# Altium footprint library NewLibrary.PcbLib: 126 footprints (part 2 of 8)
Each footprint in its own frame and in the unit in brackets; x right, y up, seen from the top. Pads: shape width x height; smd on the part's side, far side on the other; paste and mask are expansions set on the pad; w line width, h text height; cw(c..) or ccw(c..) is an arc to the next point about the centre after c.
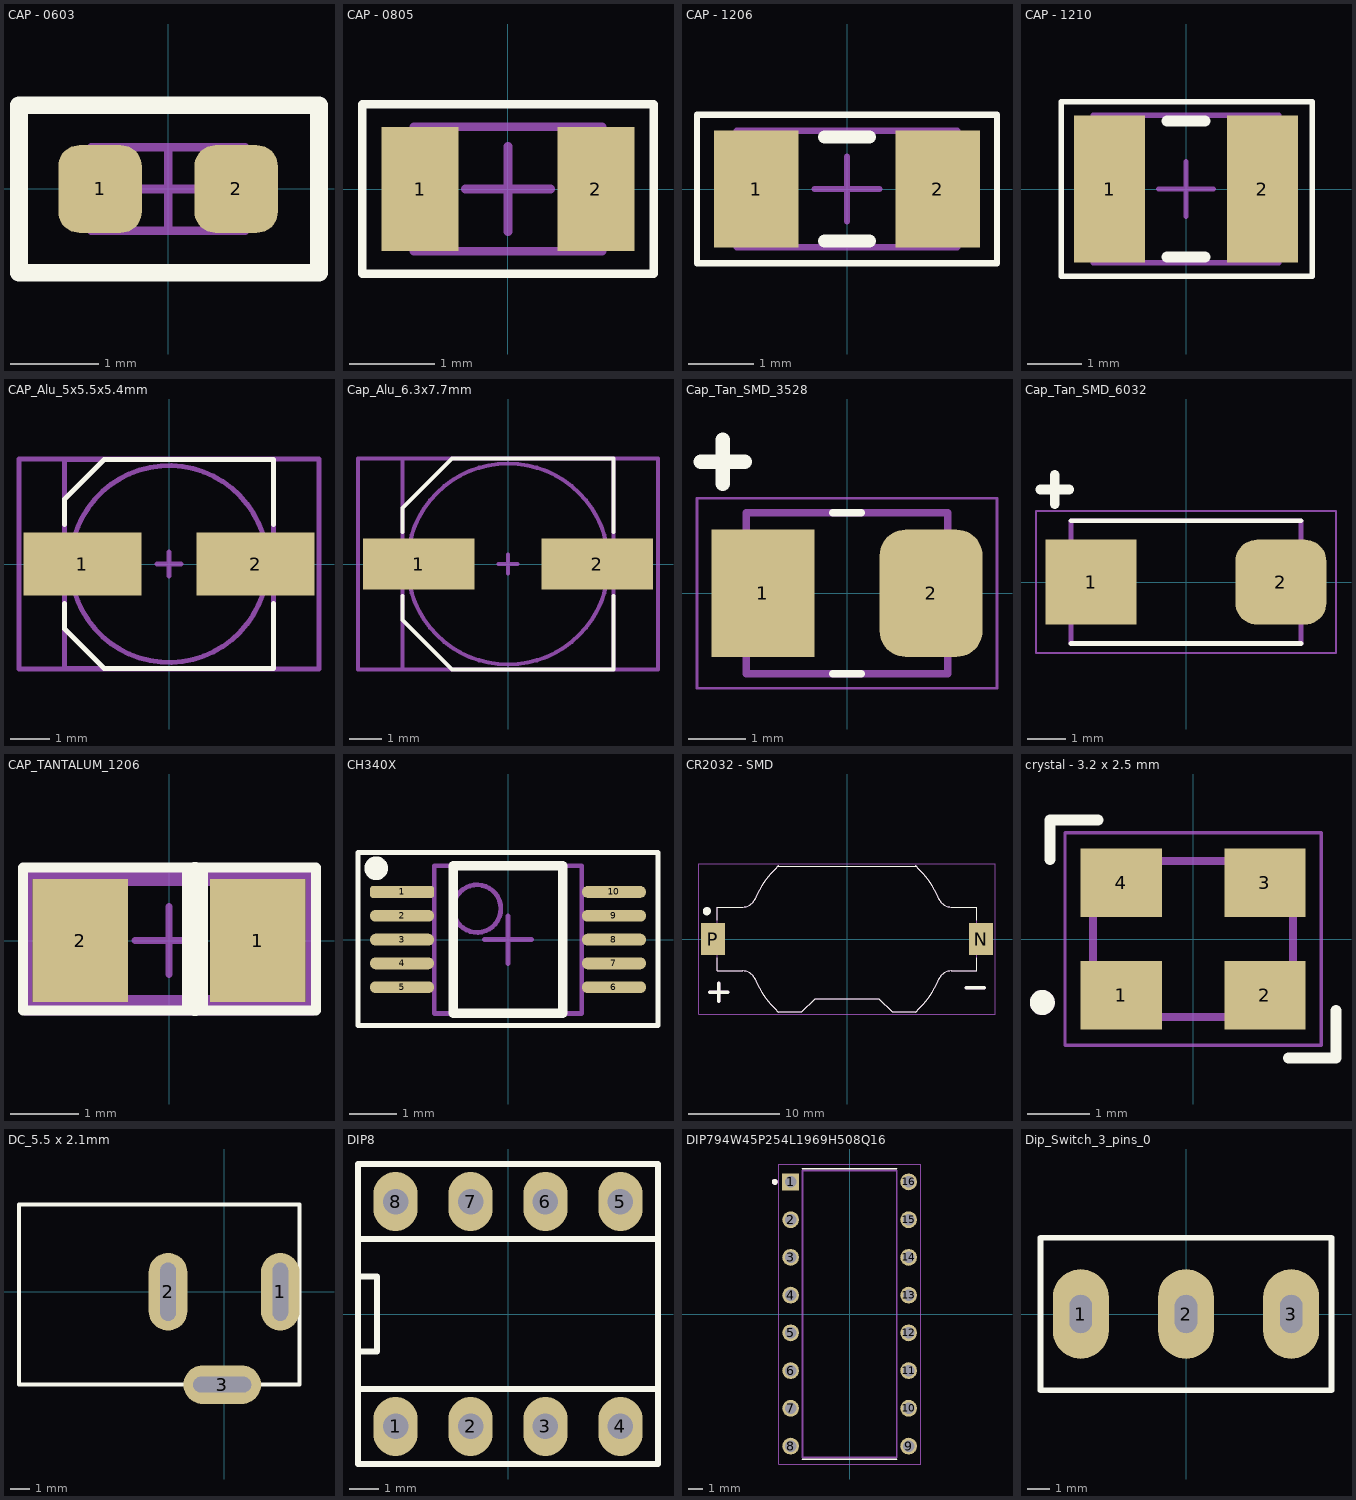
[diagram p1: the footprints below, top view; thin cyan lines are the x and y axes]

## CAP - 0603 [mm] "Capacitor SMD - 1608 - KEMET"
height 1
pads (2):
  rrect50% 0.95x1 smd: 1(-0.775,0) 2(0.775,0)
Top Overlay:
  lines w0.2: -1.699,-0.953 1.718,-0.953 1.718,0.953 -1.699,0.953 -1.699,-0.953
Mechanical 13:
  lines w0.1: -0.875,-0.475 0.875,-0.475 0.875,0.475 -0.875,0.475 -0.875,-0.475
Mechanical 15:
  lines w0.1: -0.475,0 0.475,0 ; 0,-0.475 0,0.475
3D body "CAP - 0603.step": height 1, standoff 0, extent -0.875,-0.475 0.875,0.475

## CAP - 0805 [mm] "Capacitor SMD - 2012 - KEMET"
height 1
pads (2):
  rect 0.9x1.45 smd: 1(-1.025,0) 2(1.025,0)
Top Overlay:
  lines w0.1: -1.702,-0.991 1.702,-0.991 1.702,0.991 -1.702,0.991 -1.702,-0.991
Mechanical 13:
  lines w0.1: -1.1,-0.725 -1.1,0.725 1.1,0.725 1.1,-0.725 -1.1,-0.725
Mechanical 15:
  lines w0.1: -0.5,0 0.5,0 ; 0,-0.5 0,0.5
3D body "CAP - 0805.step": height 1, standoff 0, extent -1.1,-0.725 1.1,0.725

## CAP - 1206 [mm] "Capacitor SMD - 3216 - KEMET"
height 1
pads (2):
  rect 1.3x1.8 smd: 1(-1.4,0) 2(1.4,0)
Top Overlay:
  lines w0.1: -2.311,-1.143 2.311,-1.143 2.311,1.143 -2.286,1.143 -2.311,1.143 -2.311,-1.143
  lines w0.2: -0.35,-0.8 0.35,-0.8 ; -0.35,0.8 0.35,0.8
Mechanical 13:
  lines w0.1: -1.7,-0.9 -1.7,0.9 1.7,0.9 1.7,-0.9 -1.7,-0.9
Mechanical 15:
  lines w0.1: -0.5,0 0.5,0 ; 0,-0.5 0,0.5
3D body "CAP - 1206.step": height 1, standoff 0, extent -1.7,-0.9 1.7,0.9

## CAP - 1210 [mm] "Capacitor SMD - 3225 - KEMET"
height 1.2
pads (2):
  rect 1.3x2.7 smd: 1(-1.4,0) 2(1.4,0)
Top Overlay:
  lines w0.1: -2.286,-1.6 -2.286,1.6 2.311,1.6 2.311,-1.6 -2.286,-1.6
  lines w0.2: -0.35,-1.25 0.35,-1.25 ; -0.35,1.25 0.35,1.25
Mechanical 13:
  lines w0.1: -1.7,-1.35 -1.7,1.35 1.7,1.35 1.7,-1.35 -1.7,-1.35
Mechanical 15:
  lines w0.1: -0.5,0 0.5,0 ; 0,-0.5 0,0.5
3D body "CAP - 1210.step": height 1.2, standoff 0, extent -1.7,-1.35 1.7,1.35

## CAP_Alu_5x5.5x5.4mm [mm]
pads (2):
  rect 3x1.6 smd: 1(-2.2,0) 2(2.2,0)
Top Overlay:
  lines w0.127: -2.65,-1 -2.65,-1.65 -1.65,-2.65 2.65,-2.65 2.65,-1 ; -2.65,1 -2.65,1.65 -1.65,2.65 2.65,2.65 2.65,1
Mechanical 13:
  circle w0.127: c0,0 r2.5
  lines w0.127: -2.65,-2.65 -2.65,2.65 2.65,2.65 2.65,-2.65 -2.65,-2.65
Mechanical 15:
  lines w0.127: -0.3,0 0.3,0 ; 0,-0.3 0,0.3 ; -3.81,-2.667 -3.81,2.667 3.81,2.667 3.81,-2.667 -3.81,-2.667
3D body "5x5.5x1.4.stp": height 5.45, standoff -0.05, extent -3,-2.65 3,2.65

## Cap_Alu_6.3x7.7mm [mm]
pads (2):
  rect 3.5x1.6 smd: 1(-2.8,0) 2(2.8,0)
Top Overlay:
  lines w0.127: -3.3,-1 -3.3,-1.75 -1.75,-3.3 3.3,-3.3 3.3,-1 ; -3.3,1 -3.3,1.75 -1.75,3.3 3.3,3.3 3.3,1
Mechanical 13:
  circle w0.127: c0,0 r3.15
  lines w0.127: -3.3,-3.3 3.3,-3.3 3.3,3.3 -3.3,3.3 -3.3,-3.3
Mechanical 15:
  lines w0.127: -0.3,0 0.3,0 ; 0,-0.3 0,0.3 ; -4.699,-3.302 4.699,-3.302 4.699,3.302 -4.699,3.302 -4.699,-3.302
3D body "6.3x7.7x2.2.stp": height 7.65, standoff -0.05, extent -3.65,-3.3 3.65,3.3

## Cap_Tan_SMD_3528 [mm] "SMD"
pads (2):
  rect 1.79x2.21 smd: 1(-1.46,0)
  rrect50% 1.79x2.21 smd: 2(1.46,0)
Top Overlay:
  lines w0.127: -0.245,-1.4 0.245,-1.4 ; -0.245,1.4 0.245,1.4
  lines w0.254: -2.54,2.286 -1.778,2.286 ; -2.159,1.905 -2.159,2.667
Mechanical 13:
  lines w0.127: -1.75,-1.4 1.75,-1.4 1.75,1.4 -1.75,1.4 -1.75,-1.4
Mechanical 15:
  lines w0.05: -2.605,-1.65 2.605,-1.65 2.605,1.65 -2.605,1.65 -2.605,-1.65
3D body "step_temp.STEP": height 2.1, standoff 0, extent -1.75,-1.4 1.75,1.4

## Cap_Tan_SMD_6032 [mm] "SMD"
pads (2):
  rect 2.37x2.21 smd: 1(-2.475,0)
  rrect50% 2.37x2.21 smd: 2(2.475,0)
Top Overlay:
  lines w0.127: -3,-1.6 3,-1.6 ; -3,1.6 3,1.6
  lines w0.254: -3.802,2.413 -3.04,2.413 ; -3.421,2.032 -3.421,2.794
Mechanical 13:
  lines w0.127: -3,-1.6 -3,1.6 3,1.6 3,-1.6 -3,-1.6
Mechanical 15:
  lines w0.05: -3.91,-1.85 -3.91,1.85 3.91,1.85 3.91,-1.85 -3.91,-1.85
3D body "step_temp.STEP": height 2.8, standoff 0, extent -3,-1.6 3,1.6

## CAP_TANTALUM_1206 [mm]
pads (2):
  rect 1.4x1.8 smd paste+0 mask+0: 1(1.298,0) 2(-1.302,0)
Top Overlay:
  lines w0.15: -2.144,-1.027 -2.144,1.071 2.153,1.071 2.153,-1.027 -2.144,-1.027
  lines w0.381: 0.377,-0.914 0.377,0.959
Top Courtyard:
  lines w0.2: -1.702,-0.9 -1.702,0.9 1.698,0.9 1.698,-0.9 -1.702,-0.9
Dimensions:
  lines w0.2: -2.102,-1 -2.102,1 2.098,1 2.098,-1 -2.102,-1
Top Component Center:
  lines w0.1: -0.502,0 0.498,0 ; -0.002,-0.5 -0.002,0.5
3D body "Cap_AVX_Corporation_TLJA107M010R1400_eec.STEP": height 0.25, standoff 0, extent -2.102,-1 2.098,1

## CH340X [mm] "5.1x3.1mm, Package MSOP10"
height 1.1
pads (10):
  rrect50% 1.35x0.25 smd: 1(-2.225,1)
  oval 1.35x0.25 smd: 2(-2.225,0.5) 3(-2.225,0) 4(-2.225,-0.5) 5(-2.225,-1) 6(2.225,-1) 7(2.225,-0.5) 8(2.225,0) 9(2.225,0.5) 10(2.225,1)
Top Overlay:
  circle w0.25: c-2.769,1.499 r0.125
  lines w0.1: -3.15,-1.803 -3.15,1.829 3.15,1.829 3.15,-1.803 -3.15,-1.803
  lines w0.2: -1.15,-1.55 -1.15,1.55 1.15,1.55 1.15,-1.55 -1.15,-1.55
Mechanical 13:
  circle w0.1: c-0.65,0.65 r0.5
  lines w0.1: -1.55,-1.55 -1.55,1.55 1.55,1.55 1.55,-1.55 -1.55,-1.55
Mechanical 15:
  lines w0.1: -0.5,0 0.5,0 ; 0,-0.5 0,0.5
3D body "CH340X.step": height 1.1, standoff 0, extent -2.45,-1.55 2.45,1.55

## CR2032 - SMD [mm] "SMD"
pads (2):
  rect 2.6x3.5 smd: N(14.7,0) P(-14.7,0)
Top Overlay:
  circle w0.8: c-15.367,3.048 r0.05
  lines w0.127: -14.25,-2.07 -14.25,-3.5 -11.456,-3.5 ; -14.25,2.07 -14.25,3.5 -11.456,3.5 ; -7.547,-8 -4.95,-8 -3.5,-6.55 3.5,-6.55 4.95,-8 7.547,-8 ; -7.547,8 7.547,8 ; 14.25,-2.07 14.25,-3.5 11.456,-3.5 ; 14.25,2.07 14.25,3.5 11.456,3.5 ; -11.456,-3.5 cw(c-11.456,-5) -10.228,-4.14 ccw(c-11.456,-5) -11.456,-3.5 ; -11.456,3.5 ccw(c-11.456,5) -10.228,4.14 cw(c-11.456,5) -11.456,3.5 ; 11.456,-3.5 ccw(c11.456,-5) 10.228,-4.14 cw(c11.456,-5) 11.456,-3.5 ; 11.456,3.5 cw(c11.456,5) 10.228,4.14 ccw(c11.456,5) 11.456,3.5 ; -10.228,-4.139 cw(c-11.456,-5) -10.086,-4.39 ccw(c-11.456,-5) -10.228,-4.139 ; -10.228,4.139 ccw(c-11.456,5) -10.086,4.39 cw(c-11.456,5) -10.228,4.139 ; -10.113,-4.326 ccw(c-0.145,-0.095) -7.531,-8.015 cw(c-0.145,-0.095) -10.113,-4.326 ; -10.113,4.326 cw(c-0.145,0.095) -7.531,8.015 ccw(c-0.145,0.095) -10.113,4.326 ; 7.531,-8.015 ccw(c0.145,-0.095) 10.113,-4.326 cw(c0.145,-0.095) 7.531,-8.015 ; 7.531,8.015 cw(c0.145,0.095) 10.113,4.326 ccw(c0.145,0.095) 7.531,8.015 ; 10.086,-4.39 cw(c11.456,-5) 10.228,-4.139 ccw(c11.456,-5) 10.086,-4.39 ; 10.086,4.39 ccw(c11.456,5) 10.228,4.139 cw(c11.456,5) 10.086,4.39
  lines w0.381: -15.063,-5.842 -13.063,-5.842 ; -14.063,-6.842 -14.063,-4.842 ; 13.063,-5.334 15.063,-5.334
Mechanical 13:
  lines w0.127: -10.228,-4.14 ccw(c-11.456,-5) -11.456,-3.5 -14.25,-3.5 -14.25,3.5 -11.456,3.5 ccw(c-11.456,5) -10.228,4.14 ; -10.228,-4.139 cw(c-11.456,-5) -10.086,-4.39 ; -10.228,4.139 ccw(c-11.456,5) -10.086,4.39 ; -10.113,-4.326 ccw(c-0.145,-0.095) -7.531,-8.015 ; -10.113,4.326 cw(c-0.145,0.095) -7.531,8.015 ; -7.547,-8 -4.95,-8 -3.5,-6.55 3.5,-6.55 4.95,-8 7.547,-8 ; -7.547,8 7.547,8 ; 7.531,-8.015 ccw(c0.145,-0.095) 10.113,-4.326 ; 7.531,8.015 cw(c0.145,0.095) 10.113,4.326 ; 10.086,-4.39 cw(c11.456,-5) 10.228,-4.139 ; 10.086,4.39 ccw(c11.456,5) 10.228,4.139 ; 10.228,-4.14 cw(c11.456,-5) 11.456,-3.5 14.25,-3.5 14.25,3.5 11.456,3.5 cw(c11.456,5) 10.228,4.14
  lines w0.381: -15.063,-5.842 -13.063,-5.842 ; -14.063,-6.842 -14.063,-4.842 ; 13.063,-5.334 15.063,-5.334
Mechanical 15:
  lines w0.05: -16.25,-8.25 -16.25,8.25 16.25,8.25 16.25,-8.25 -16.25,-8.25
3D body "CR2032-BS-6-1--3DModel-STEP-56544.STEP": height 5.55, standoff 0, extent -15.65,-8 15.65,8

## crystal - 3.2 x 2.5 mm [mm] "SMD"
pads (4):
  rect 1.3x1.1 smd: 1(-1.15,-0.9) 2(1.15,-0.9) 3(1.15,0.9) 4(-1.15,0.9)
Top Overlay:
  circle w0.2: c-2.413,-1.016 r0.1
  lines w0.178: -2.286,1.27 -2.286,1.905 -1.524,1.905 ; 1.524,-1.905 2.286,-1.905 2.286,-1.143
Mechanical 13:
  circle w0.2: c-2.413,-1.016 r0.1
  lines w0.127: -1.6,-1.25 1.6,-1.25 1.6,1.25 -1.6,1.25 -1.6,-1.25
Mechanical 15:
  lines w0.05: -2.05,-1.7 2.05,-1.7 2.05,1.7 -2.05,1.7 -2.05,-1.7
3D body "step_temp.STEP": height 0.8, standoff 0, extent -1.6,-1.25 1.6,1.25

## DC_5.5 x 2.1mm [mm]
pads (3):
  oval 2x4 hole 0.8 slot 3 at 90 deg: 1(2.9,0) 2(-2.9,0)
  oval 4x2 hole 0.8 slot 3 at 0 deg: 3(-0.1,-4.8)
Top Overlay:
  lines w0.2: -2.1,-4.8 -10.6,-4.8 -10.6,4.5 3.9,4.5 3.9,-4.8 1.9,-4.8
3D body "694106301002.stp": height 10.7, standoff -3.8, extent -10.6,-4.9 3.9,4.5

## DIP8 [mm] "W.300/L.400"
pads (8):
  oval 1.5x2 hole 0.864: 1(-3.81,-3.81) 2(-1.27,-3.81) 3(1.27,-3.81) 4(3.81,-3.81) 5(3.81,3.81) 6(1.27,3.81) 7(-1.27,3.81) 8(-3.81,3.81)
Top Overlay:
  lines w0.203: -5.08,-2.54 -5.08,-1.27 ; -5.08,-2.54 -5.08,-5.08 5.08,-5.08 5.08,2.54 ; -5.08,-2.54 -5.08,2.54 ; -5.08,-2.54 5.08,-2.54 ; -5.08,-2.54 -5.08,2.54 ; -5.08,-2.54 5.08,-2.54 ; -5.08,-1.27 -5.08,1.27 ; -5.08,-1.27 -4.445,-1.27 ; -5.08,-1.27 -4.445,-1.27 ; -5.08,1.27 -5.08,5.08 5.08,5.08 5.08,2.54 ; -5.08,1.27 -4.445,1.27 ; -5.08,1.27 -4.445,1.27 ; -5.08,2.54 5.08,2.54 ; -5.08,2.54 5.08,2.54 ; -4.445,-1.27 -4.445,1.27 ; -4.445,-1.27 -4.445,1.27 ; 5.08,-2.54 5.08,2.54 ; 5.08,-2.54 5.08,2.54
3D body "User Library-DIP8-300-metric.step": height 4.5, standoff -3.5, extent -5.4,-3.88 5.4,3.88

## DIP794W45P254L1969H508Q16 [mm]
pads (16):
  rect 1.13x1.13 / inner round 1.13 / far side rect 1.13x1.13 hole 0.78: 1(-3.97,8.89)
  round 1.13 hole 0.78: 2(-3.97,6.35) 3(-3.97,3.81) 4(-3.97,1.27) 5(-3.97,-1.27) 6(-3.97,-3.81) 7(-3.97,-6.35) 8(-3.97,-8.89) 9(3.97,-8.89) 10(3.97,-6.35) 11(3.97,-3.81) 12(3.97,-1.27) 13(3.97,1.27) 14(3.97,3.81) 15(3.97,6.35) 16(3.97,8.89)
Top Overlay:
  circle w0.2: c-5.035,8.89 r0.1
  lines w0.127: -3.175,-9.775 3.175,-9.775 ; -3.175,9.775 3.175,9.775
Mechanical 13:
  circle w0.2: c-5.035,8.89 r0.1
  lines w0.127: -3.175,-9.653 3.175,-9.653 3.175,9.653 -3.175,9.653 -3.175,-9.653
Mechanical 15:
  lines w0.05: -4.785,-10.095 4.785,-10.095 4.785,10.095 -4.785,10.095 -4.785,-10.095
3D body "step_temp.STEP": height 5.08, standoff -3.3, extent -3.95,-10.67 3.95,10.67

## Dip_Switch_3_pins_0 [mm]
pads (3):
  oval 2.5x4 hole 1 slot 1.7 at 90 deg: 1(-4.7,0) 2(0,0) 3(4.7,0)
Top Overlay:
  lines w0.254: -6.5,-3.4 6.5,-3.4 6.5,3.4 -6.5,3.4 -6.5,-3.4
3D body "Basprov1.1 v2.step": height 10.76, standoff -6.33, extent -6.5,-3.4 6.5,3.4